# Altium integrated library Linear Technology Power Management Switching Regulator LTC1174-LTC3901.IntLib: 2647 symbols (part 102 of 364)
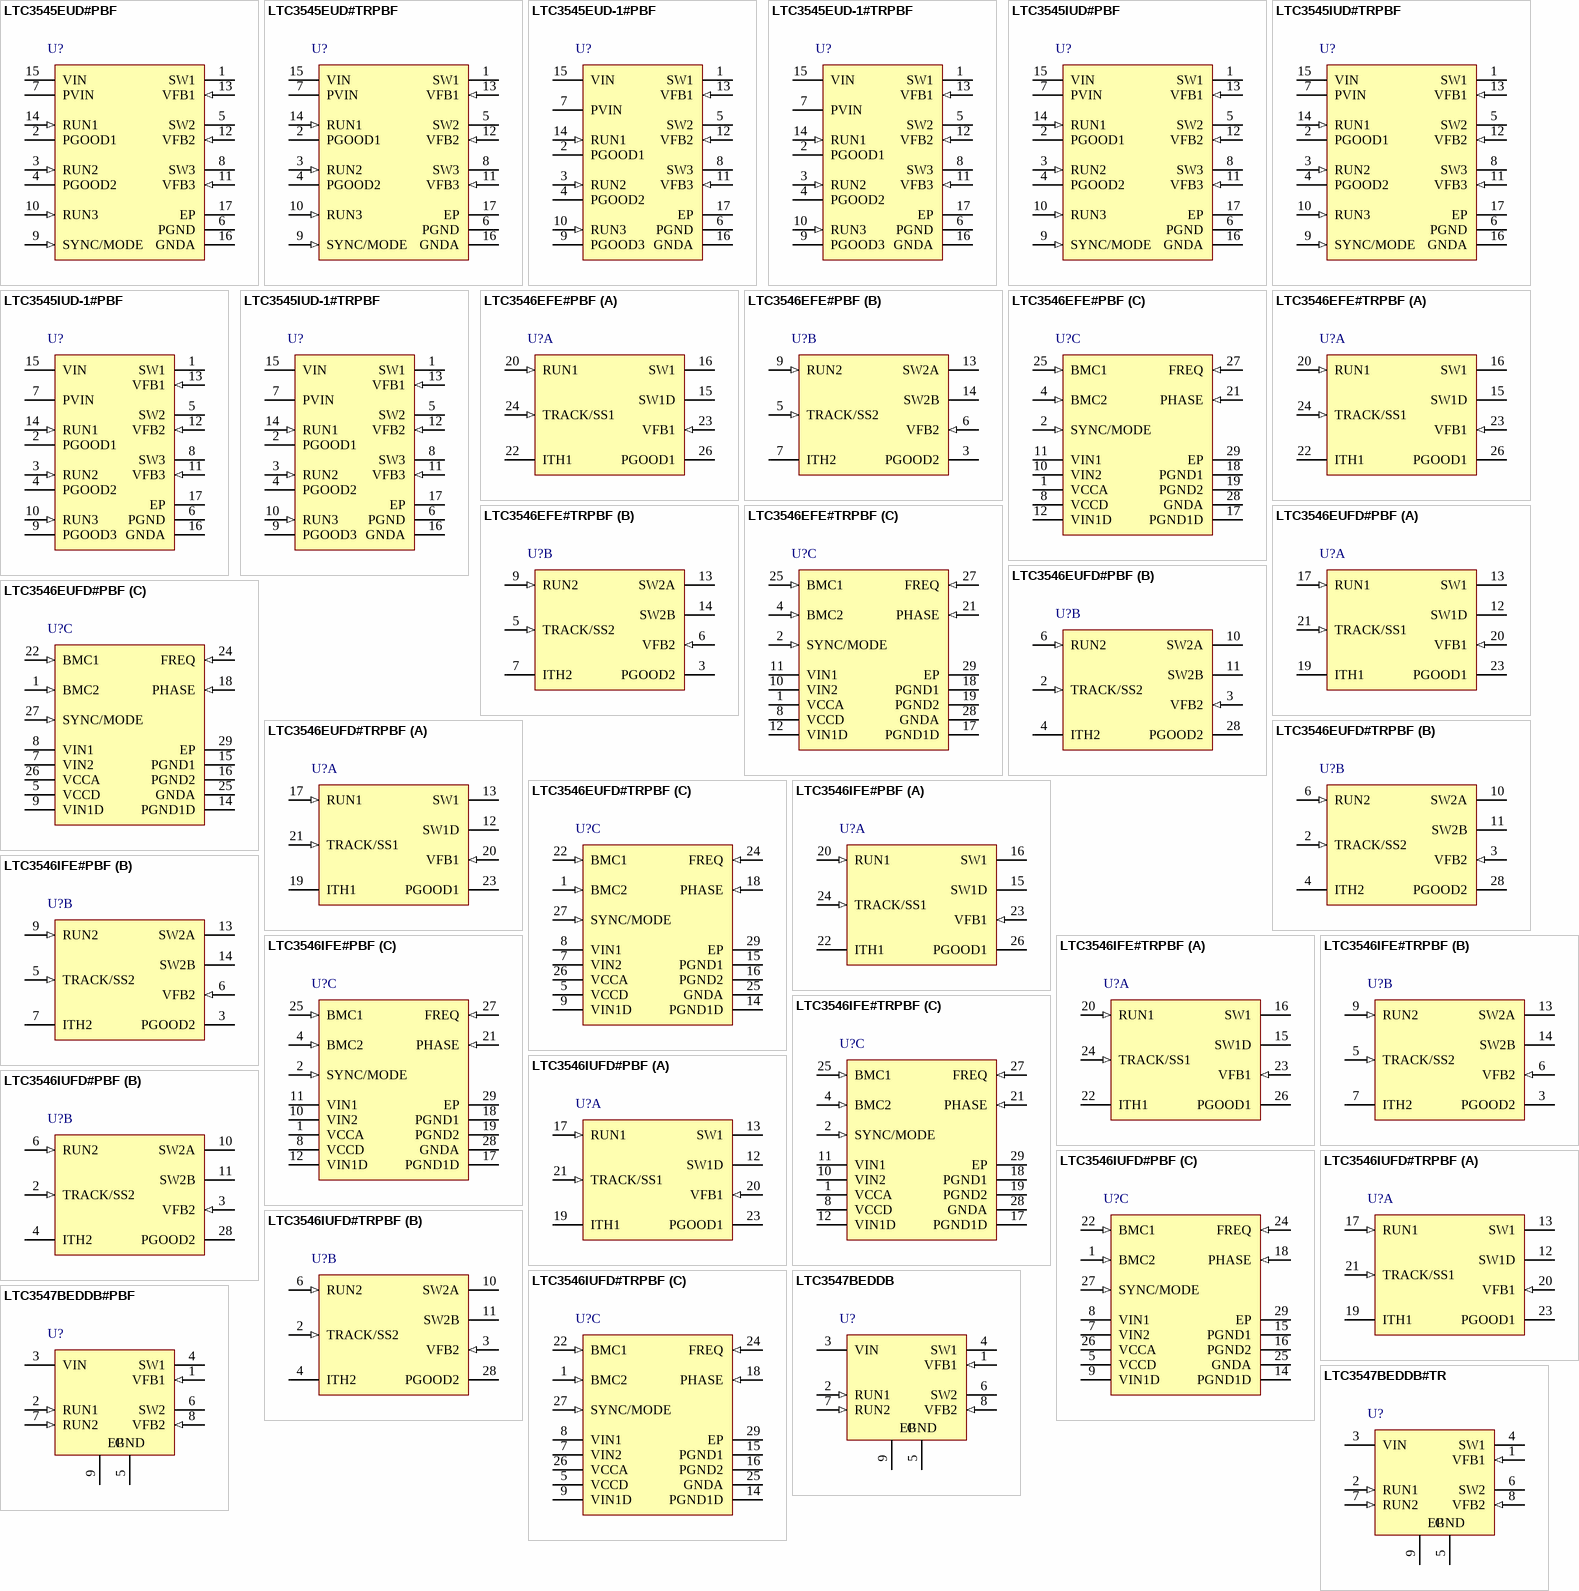
[diagram p167: symbols LTC3545EUD#PBF to LTC3547BEDDB#TR]

## LTC3546IUFD#TRPBF
designator U?
Dual Synchronous, 3 A / 1 A or 2 A / 2 A Configurable Step-Down DC/DC Regulator, 28-pin QFN (UFD-28), -40 to 125 degC, Pb-Free, Tape and Reel; Manufacturer: Linear Technology; PartNumber: LTC3546IUFD#TRPBF; Frequency Adjust Range: 750kHz - 4MHz; Number of Outputs: 2; DatasheetVersion: Rev. C; PackageVersion: Rev. B, 06/2010; PackageReference: UFD-28; PackageDescription: 28-Pin Plastic QFN, Body 5 x 4 mm, Pitch 0.5 mm; Supplier 1: Digi-Key; Supplier Part Number 1: LTC3546IUFD#TRPBF-ND; Supplier 2: Newark; Supplier Part Number 2: 56P3087; Packing: Tape and Reel; RoHS: TRUE; Mounting Technology: Surface Mount; Code_JEDEC: MO-220; ComponentLink1Description: Manufacturer URL; ComponentLink1URL: http://www.linear.com/; ComponentLink2Description: Datasheet; ComponentLink2URL: http://cds.linear.com/docs/en/datasheet/3546fc.pdf; ComponentLink3Description: Package Specification; ComponentLink3URL: http://cds.linear.com/docs/en/packaging/QFN_28_05-08-1712.pdf
footprint LT-UFD-28_N (QFN, 28-Leads, Body 5.1x4.1mm, Pitch 0.5mm, Thermal Pad 3.65x2.65mm, IPC Medium Density)
footprint LT-UFD-28_L (QFN, 28-Leads, Body 5.1x4.1mm, Pitch 0.5mm, Thermal Pad 3.65x2.65mm, IPC High Density)
footprint LT-UFD-28_M (QFN, 28-Leads, Body 5.1x4.1mm, Pitch 0.5mm, Thermal Pad 3.65x2.65mm, IPC Low Density)
part A pins: 12 SW1D (power) "The Dependent Switch Node Connection. The pin is externally connected to SW1 for a 2A/2A regulator or to SW2A/B for a 3A/1A regulator. Internal circuitry detects which pin SW1D is externally connected to, SW1 or SW2A/B. This (See Datasheet)", 13 SW1 (power) "The switch node connection to the Inductor for the Channel 1 regulator. This pin swings from VIN1 to PGND1.", 17 RUN1 (in) "Low Level Logic Input. Enable for Channel 1. When pulled high, regulator is running. When at 0V, regulator is off. When both RUN1 and RUN2 are at 0V the part is in shutdown.", 19 ITH1 "Error Amplifier Compensation for Channel 1. Peak current increases with an increase in the voltage on this pin. Nominal voltage range for this pin is 0V to 1.5V.", 20 VFB1 (in) "Feedback voltage from external resistive divider from Channel 1 output. Nominal voltage for this pin is 0.6V.", 21 TRACK/SS1 (in) "Tracking input for Channel 1 output or optional external soft-start input. VOUT1 will track an external voltage at this pin. Leaving this pin floating allows VOUT1 to start-up using the internal soft-start. An external (See Datasheet)", 23 PGOOD1 (oc) "Power Good Pin for the 1A Regulator. This common drain logic output is pulled to GND when the output voltage of Channel 1 is below -8% of regulation."
part B pins: 2 TRACK/SS2 (in) "Tracking input for Channel 2 output or optional external soft-start input. VOUT2 will track an external voltage at this pin. Leaving this pin floating allows VOUT2 to start-up using the internal soft-start. An external (See Datasheet)", 3 VFB2 (in) "Feedback voltage from external resistive divider from the Channel 2 regulator output. Nominal voltage for this pin is 0.6V.", 4 ITH2 "Error Amplifier Compensation for Channel 2 Regulator. Peak current increases with an increase in the voltage on this pin. Nominal voltage range for this pin is 0V to 1.5V.", 6 RUN2 (in) "Low Level Logic Input. Enable for Channel 2. When pulled high, regulator is running. When at 0V, regulator is off. When both RUN1 and RUN2 are at 0V the part is in shutdown.", 10 SW2A (power) "Half of the switch node connection to the inductor for Channel 2. SW2A and SW2B must be externally tied together. This pin swings from VIN2 to PGND2.", 11 SW2B (power) "Half of the switch node connection to the inductor for Channel 2 SW2A and SW2B must be externally tied together. This pin swings from VIN2 to PGND2.", 28 PGOOD2 (oc) "Power Good Pin for Channel 2 This common drain logic output is pulled to GND when the output voltage of Channel 2 is below -8% of regulation."
part C pins: 1 BMC2 (in) "Burst Mode Clamp for Channel 2. Connecting this pin to an external voltage between 0V and 0.6V sets the Burst Mode clamp level. If this pin is pulled to VCCA, an internal Burst Mode clamp level is used. This pin should be (See Datasheet)", 5 VCCD (power) "Supply Pin for Internal Digital Circuitry.", 7 VIN2 (power) "Supply pin for 2A P-channel switch which connects from VIN2 to SW2A/B.", 8 VIN1 (power) "Supply pin for 1A P-channel switch which connects from VIN1 to SW1.", 9 VIN1D (power) "Supply pin for 1A dependent P-channel switch which connects from VIN1D to SW1D.", 14 PGND1D (power) "Ground for SW1D Switching N-Channel Driver.", 15 PGND1 (power) "Ground for SW1 Switching NChannel Driver.", 16 PGND2 (power) "Ground for SW2A and SW2B Switching N-Channel Driver.", 18 PHASE (in) "Low Level Logic Input. Selects Channel 2 regulator switching phase with respect to Channel 1 regulator switching. When pulled high, the SW1 regulator and the SW2A/B regulator are in phase. When PHASE is at 0V the SW1 (See Datasheet)", 22 BMC1 (in) "Burst Mode Clamp for Channel 1. Connecting this pin to an external voltage between 0V and 0.6V sets the Burst Mode clamp level. If this pin is pulled to VCCA, an internal Burst Mode clamp level is used. This pin should be (See Datasheet)", 24 FREQ (in) "Frequency Set Pin. When FREQ is at VCCA, the internal oscillator runs at 2.25MHz. When a resistor is connected from this pin to GNDA, the internal oscillator frequency can be varied from 0.75MHz to 4MHz. When using external (See Datasheet)", 25 GNDA (power) "Ground Pin for Internal Analog Circuitry.", 26 VCCA (power) "Supply Pin for Internal Analog Circuitry.", 27 SYNC/MODE (in) "Combination Mode Selection and Oscillator Synchronization Pin. This pin controls the operation of the device. When the voltage on the SYNC/MODE pin is > (VIN - 0.5V), Burst Mode operation is selected for both regulators. (See Datasheet)", 29 EP (power) "Digital Ground. Connect to Electrical Ground for substrate and internal digital circuitry. Solder to PCB for rated thermal performance."

## LTC3547BEDDB
designator U?
Dual Monolithic 300 mA Synchronous Step-Down Regulator, 8-pin SON (DDB-8), -40 to 85 degC; Manufacturer: Linear Technology; PartNumber: LTC3547BEDDB; Number of Outputs: 2; DatasheetVersion: Rev. B; PackageVersion: Rev. B, 06/2010; PackageReference: DDB-8; PackageDescription: 8-Pin Plastic DFN, Body 3 x 2 mm, Pitch 0.5 mm; RoHS: FALSE; Mounting Technology: Surface Mount; Code_JEDEC: MO-229; ComponentLink1Description: Manufacturer URL; ComponentLink1URL: http://www.linear.com/; ComponentLink2Description: Datasheet; ComponentLink2URL: http://cds.linear.com/docs/en/datasheet/3547bfb.pdf; ComponentLink3Description: Package Specification; ComponentLink3URL: http://cds.linear.com/docs/en/packaging/DFN_8_05-08-1702.pdf
footprint LT-DDB-8_V (SON, 8-Leads, Body 3x2mm, Pitch 0.5mm, Thermal Pad 2.2x0.61mm)
pins: 1 VFB1 (in) "Regulator 1 Output Feedback. Receives the feedback voltage from the external resistor divider across the regulator 1 output. Nominal voltage for this pin is 0.6V.", 2 RUN1 (in) "Regulator 1 Enable. Forcing this pin to VIN enables regulator 1, while forcing it to GND causes regulator 1 to shut down.", 3 VIN (power) "Main Power Supply. Must be closely decoupled to GND.", 4 SW1 (power) "Regulator 1 Switch Node Connection to the Inductor. This pin swings from VIN to GND.", 5 GND (power) "Ground. Connect to the (-) terminal of COUT, and the (-) terminal of CIN.", 6 SW2 (power) "Regulator 2 Switch Node Connection to the Inductor. This pin swings from VIN to GND.", 7 RUN2 (in) "Regulator 2 Enable. Forcing this pin to VIN enables regulator 2, while forcing it to GND causes  regulator 2 to shut down.", 8 VFB2 (in) "Regulator 2 Output Feedback. Receives the feedback voltage from the external resistor divider across the regulator 2 output. Nominal voltage for this pin is 0.6V.", 9 EP (power) "Electrically Connected to GND. Must be soldered to the PCB for optimum thermal  performance."

## LTC3547BEDDB#PBF
designator U?
Dual Monolithic 300 mA Synchronous Step-Down Regulator, 8-pin SON (DDB-8), -40 to 85 degC, Pb-Free; Manufacturer: Linear Technology; PartNumber: LTC3547BEDDB#PBF; Number of Outputs: 2; DatasheetVersion: Rev. B; PackageVersion: Rev. B, 06/2010; PackageReference: DDB-8; PackageDescription: 8-Pin Plastic DFN, Body 3 x 2 mm, Pitch 0.5 mm; Supplier 1: Farnell; Supplier Part Number 1: 2295075; RoHS: TRUE; Mounting Technology: Surface Mount; Code_JEDEC: MO-229; ComponentLink1Description: Manufacturer URL; ComponentLink1URL: http://www.linear.com/; ComponentLink2Description: Datasheet; ComponentLink2URL: http://cds.linear.com/docs/en/datasheet/3547bfb.pdf; ComponentLink3Description: Package Specification; ComponentLink3URL: http://cds.linear.com/docs/en/packaging/DFN_8_05-08-1702.pdf
footprint LT-DDB-8_V (SON, 8-Leads, Body 3x2mm, Pitch 0.5mm, Thermal Pad 2.2x0.61mm)
pins: 1 VFB1 (in) "Regulator 1 Output Feedback. Receives the feedback voltage from the external resistor divider across the regulator 1 output. Nominal voltage for this pin is 0.6V.", 2 RUN1 (in) "Regulator 1 Enable. Forcing this pin to VIN enables regulator 1, while forcing it to GND causes regulator 1 to shut down.", 3 VIN (power) "Main Power Supply. Must be closely decoupled to GND.", 4 SW1 (power) "Regulator 1 Switch Node Connection to the Inductor. This pin swings from VIN to GND.", 5 GND (power) "Ground. Connect to the (-) terminal of COUT, and the (-) terminal of CIN.", 6 SW2 (power) "Regulator 2 Switch Node Connection to the Inductor. This pin swings from VIN to GND.", 7 RUN2 (in) "Regulator 2 Enable. Forcing this pin to VIN enables regulator 2, while forcing it to GND causes  regulator 2 to shut down.", 8 VFB2 (in) "Regulator 2 Output Feedback. Receives the feedback voltage from the external resistor divider across the regulator 2 output. Nominal voltage for this pin is 0.6V.", 9 EP (power) "Electrically Connected to GND. Must be soldered to the PCB for optimum thermal  performance."

## LTC3547BEDDB#TR
designator U?
Dual Monolithic 300 mA Synchronous Step-Down Regulator, 8-pin SON (DDB-8), -40 to 85 degC, Tape and Reel; Manufacturer: Linear Technology; PartNumber: LTC3547BEDDB#TR; Number of Outputs: 2; DatasheetVersion: Rev. B; PackageVersion: Rev. B, 06/2010; PackageReference: DDB-8; PackageDescription: 8-Pin Plastic DFN, Body 3 x 2 mm, Pitch 0.5 mm; Packing: Tape and Reel; RoHS: FALSE; Mounting Technology: Surface Mount; Code_JEDEC: MO-229; ComponentLink1Description: Manufacturer URL; ComponentLink1URL: http://www.linear.com/; ComponentLink2Description: Datasheet; ComponentLink2URL: http://cds.linear.com/docs/en/datasheet/3547bfb.pdf; ComponentLink3Description: Package Specification; ComponentLink3URL: http://cds.linear.com/docs/en/packaging/DFN_8_05-08-1702.pdf
footprint LT-DDB-8_V (SON, 8-Leads, Body 3x2mm, Pitch 0.5mm, Thermal Pad 2.2x0.61mm)
pins: 1 VFB1 (in) "Regulator 1 Output Feedback. Receives the feedback voltage from the external resistor divider across the regulator 1 output. Nominal voltage for this pin is 0.6V.", 2 RUN1 (in) "Regulator 1 Enable. Forcing this pin to VIN enables regulator 1, while forcing it to GND causes regulator 1 to shut down.", 3 VIN (power) "Main Power Supply. Must be closely decoupled to GND.", 4 SW1 (power) "Regulator 1 Switch Node Connection to the Inductor. This pin swings from VIN to GND.", 5 GND (power) "Ground. Connect to the (-) terminal of COUT, and the (-) terminal of CIN.", 6 SW2 (power) "Regulator 2 Switch Node Connection to the Inductor. This pin swings from VIN to GND.", 7 RUN2 (in) "Regulator 2 Enable. Forcing this pin to VIN enables regulator 2, while forcing it to GND causes  regulator 2 to shut down.", 8 VFB2 (in) "Regulator 2 Output Feedback. Receives the feedback voltage from the external resistor divider across the regulator 2 output. Nominal voltage for this pin is 0.6V.", 9 EP (power) "Electrically Connected to GND. Must be soldered to the PCB for optimum thermal  performance."

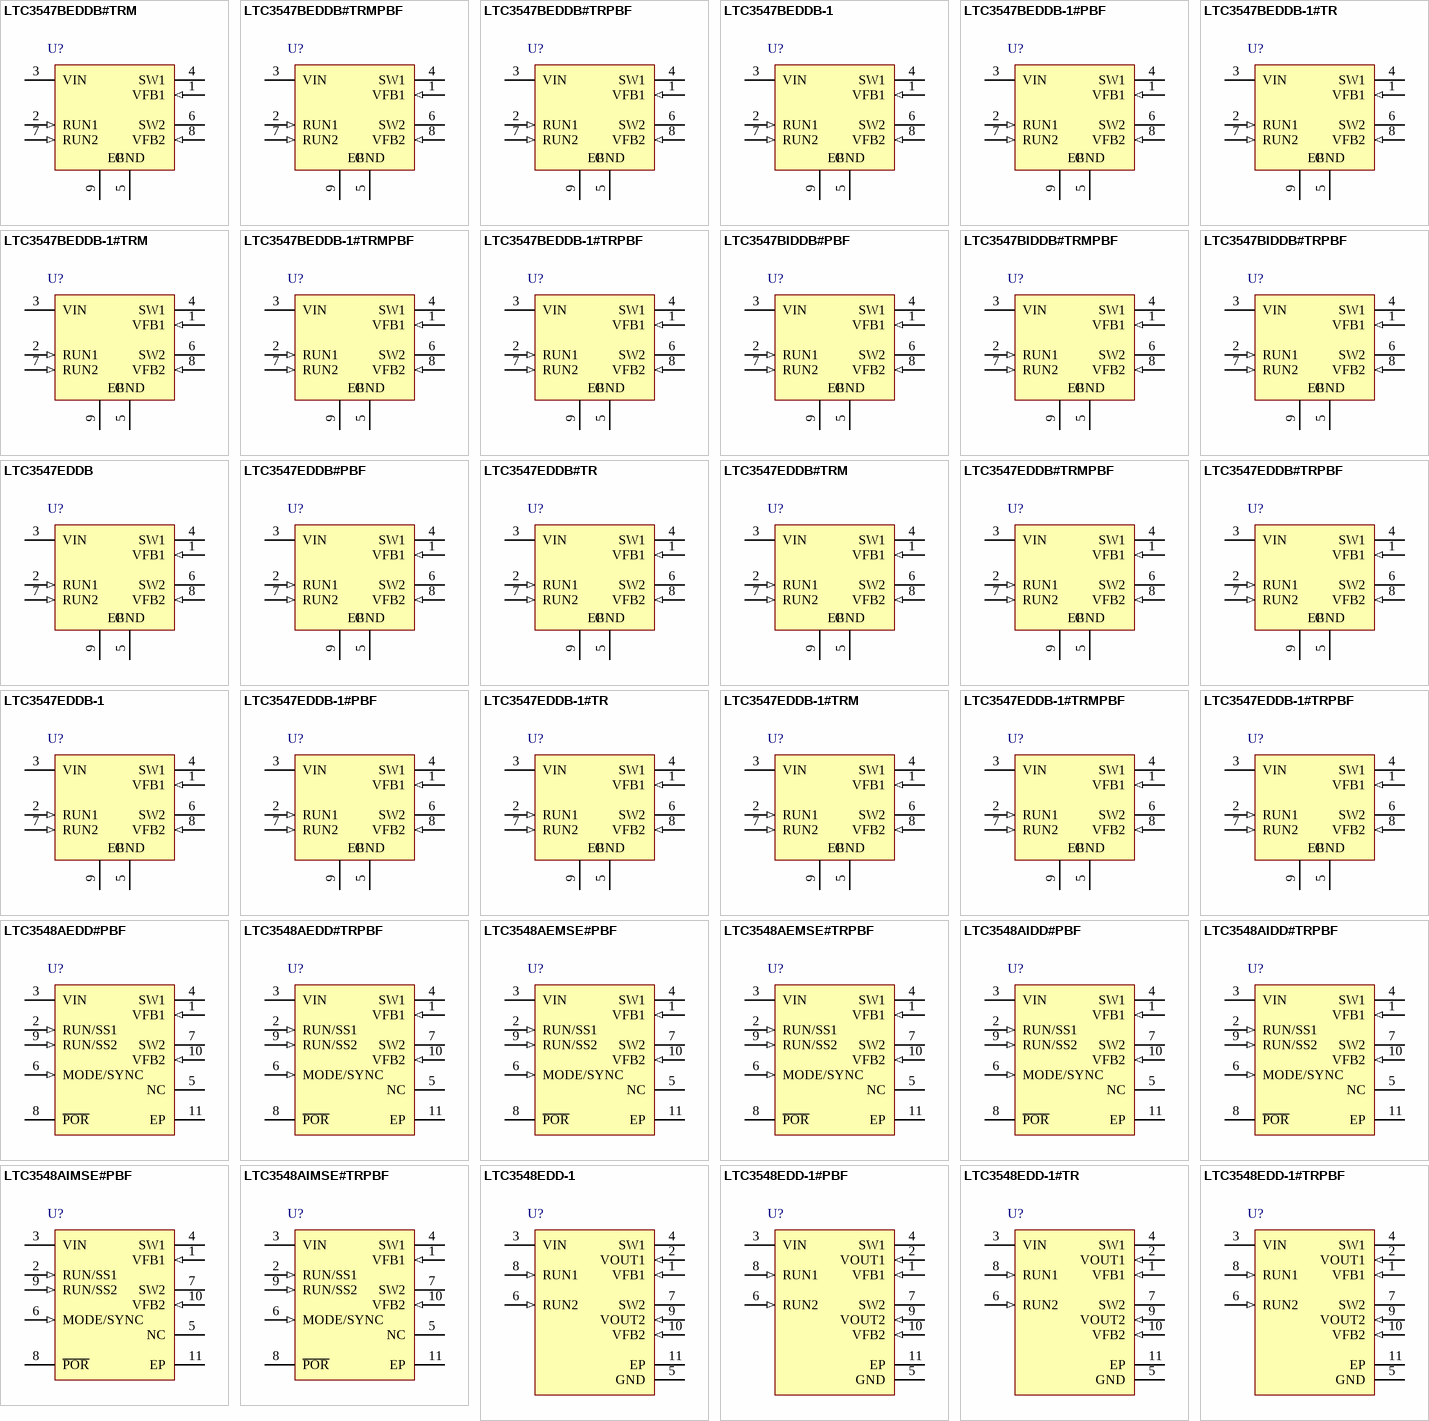
[diagram p33: symbols LTC3547BEDDB#TRM to LTC3548EDD-1#TRPBF]

## LTC3547BEDDB#TRM
designator U?
Dual Monolithic 300 mA Synchronous Step-Down Regulator, 8-pin SON (DDB-8), -40 to 85 degC, Mini Tape and Reel; Manufacturer: Linear Technology; PartNumber: LTC3547BEDDB#TRM; Number of Outputs: 2; DatasheetVersion: Rev. B; PackageVersion: Rev. B, 06/2010; PackageReference: DDB-8; PackageDescription: 8-Pin Plastic DFN, Body 3 x 2 mm, Pitch 0.5 mm; Packing: Mini Tape and Reel; RoHS: FALSE; Mounting Technology: Surface Mount; Code_JEDEC: MO-229; ComponentLink1Description: Manufacturer URL; ComponentLink1URL: http://www.linear.com/; ComponentLink2Description: Datasheet; ComponentLink2URL: http://cds.linear.com/docs/en/datasheet/3547bfb.pdf; ComponentLink3Description: Package Specification; ComponentLink3URL: http://cds.linear.com/docs/en/packaging/DFN_8_05-08-1702.pdf
footprint LT-DDB-8_V (SON, 8-Leads, Body 3x2mm, Pitch 0.5mm, Thermal Pad 2.2x0.61mm)
pins: 1 VFB1 (in) "Regulator 1 Output Feedback. Receives the feedback voltage from the external resistor divider across the regulator 1 output. Nominal voltage for this pin is 0.6V.", 2 RUN1 (in) "Regulator 1 Enable. Forcing this pin to VIN enables regulator 1, while forcing it to GND causes regulator 1 to shut down.", 3 VIN (power) "Main Power Supply. Must be closely decoupled to GND.", 4 SW1 (power) "Regulator 1 Switch Node Connection to the Inductor. This pin swings from VIN to GND.", 5 GND (power) "Ground. Connect to the (-) terminal of COUT, and the (-) terminal of CIN.", 6 SW2 (power) "Regulator 2 Switch Node Connection to the Inductor. This pin swings from VIN to GND.", 7 RUN2 (in) "Regulator 2 Enable. Forcing this pin to VIN enables regulator 2, while forcing it to GND causes  regulator 2 to shut down.", 8 VFB2 (in) "Regulator 2 Output Feedback. Receives the feedback voltage from the external resistor divider across the regulator 2 output. Nominal voltage for this pin is 0.6V.", 9 EP (power) "Electrically Connected to GND. Must be soldered to the PCB for optimum thermal  performance."

## LTC3547BEDDB#TRMPBF
designator U?
Dual Monolithic 300 mA Synchronous Step-Down Regulator, 8-pin SON (DDB-8), -40 to 85 degC, Pb-Free, Mini Tape and Reel; Manufacturer: Linear Technology; PartNumber: LTC3547BEDDB#TRMPBF; Number of Outputs: 2; DatasheetVersion: Rev. B; PackageVersion: Rev. B, 06/2010; PackageReference: DDB-8; PackageDescription: 8-Pin Plastic DFN, Body 3 x 2 mm, Pitch 0.5 mm; Supplier 1: Digi-Key; Supplier Part Number 1: LTC3547BEDDB#TRMPBF-ND; Supplier 2: Newark; Supplier Part Number 2: 58M0774; Packing: Mini Tape and Reel; RoHS: TRUE; Mounting Technology: Surface Mount; Code_JEDEC: MO-229; ComponentLink1Description: Manufacturer URL; ComponentLink1URL: http://www.linear.com/; ComponentLink2Description: Datasheet; ComponentLink2URL: http://cds.linear.com/docs/en/datasheet/3547bfb.pdf; ComponentLink3Description: Package Specification; ComponentLink3URL: http://cds.linear.com/docs/en/packaging/DFN_8_05-08-1702.pdf
footprint LT-DDB-8_V (SON, 8-Leads, Body 3x2mm, Pitch 0.5mm, Thermal Pad 2.2x0.61mm)
pins: 1 VFB1 (in) "Regulator 1 Output Feedback. Receives the feedback voltage from the external resistor divider across the regulator 1 output. Nominal voltage for this pin is 0.6V.", 2 RUN1 (in) "Regulator 1 Enable. Forcing this pin to VIN enables regulator 1, while forcing it to GND causes regulator 1 to shut down.", 3 VIN (power) "Main Power Supply. Must be closely decoupled to GND.", 4 SW1 (power) "Regulator 1 Switch Node Connection to the Inductor. This pin swings from VIN to GND.", 5 GND (power) "Ground. Connect to the (-) terminal of COUT, and the (-) terminal of CIN.", 6 SW2 (power) "Regulator 2 Switch Node Connection to the Inductor. This pin swings from VIN to GND.", 7 RUN2 (in) "Regulator 2 Enable. Forcing this pin to VIN enables regulator 2, while forcing it to GND causes  regulator 2 to shut down.", 8 VFB2 (in) "Regulator 2 Output Feedback. Receives the feedback voltage from the external resistor divider across the regulator 2 output. Nominal voltage for this pin is 0.6V.", 9 EP (power) "Electrically Connected to GND. Must be soldered to the PCB for optimum thermal  performance."

## LTC3547BEDDB#TRPBF
designator U?
Dual Monolithic 300 mA Synchronous Step-Down Regulator, 8-pin SON (DDB-8), -40 to 85 degC, Pb-Free, Tape and Reel; Manufacturer: Linear Technology; PartNumber: LTC3547BEDDB#TRPBF; Number of Outputs: 2; DatasheetVersion: Rev. B; PackageVersion: Rev. B, 06/2010; PackageReference: DDB-8; PackageDescription: 8-Pin Plastic DFN, Body 3 x 2 mm, Pitch 0.5 mm; Supplier 1: Digi-Key; Supplier Part Number 1: LTC3547BEDDB#TRPBF-ND; Packing: Tape and Reel; RoHS: TRUE; Mounting Technology: Surface Mount; Code_JEDEC: MO-229; ComponentLink1Description: Manufacturer URL; ComponentLink1URL: http://www.linear.com/; ComponentLink2Description: Datasheet; ComponentLink2URL: http://cds.linear.com/docs/en/datasheet/3547bfb.pdf; ComponentLink3Description: Package Specification; ComponentLink3URL: http://cds.linear.com/docs/en/packaging/DFN_8_05-08-1702.pdf
footprint LT-DDB-8_V (SON, 8-Leads, Body 3x2mm, Pitch 0.5mm, Thermal Pad 2.2x0.61mm)
pins: 1 VFB1 (in) "Regulator 1 Output Feedback. Receives the feedback voltage from the external resistor divider across the regulator 1 output. Nominal voltage for this pin is 0.6V.", 2 RUN1 (in) "Regulator 1 Enable. Forcing this pin to VIN enables regulator 1, while forcing it to GND causes regulator 1 to shut down.", 3 VIN (power) "Main Power Supply. Must be closely decoupled to GND.", 4 SW1 (power) "Regulator 1 Switch Node Connection to the Inductor. This pin swings from VIN to GND.", 5 GND (power) "Ground. Connect to the (-) terminal of COUT, and the (-) terminal of CIN.", 6 SW2 (power) "Regulator 2 Switch Node Connection to the Inductor. This pin swings from VIN to GND.", 7 RUN2 (in) "Regulator 2 Enable. Forcing this pin to VIN enables regulator 2, while forcing it to GND causes  regulator 2 to shut down.", 8 VFB2 (in) "Regulator 2 Output Feedback. Receives the feedback voltage from the external resistor divider across the regulator 2 output. Nominal voltage for this pin is 0.6V.", 9 EP (power) "Electrically Connected to GND. Must be soldered to the PCB for optimum thermal  performance."

## LTC3547BEDDB-1
designator U?
Dual Monolithic 300 mA Synchronous Step-Down Regulator, 8-pin SON (DDB-8), -40 to 85 degC; Manufacturer: Linear Technology; PartNumber: LTC3547BEDDB-1; Number of Outputs: 2; DatasheetVersion: Rev. B; PackageVersion: Rev. B, 06/2010; PackageReference: DDB-8; PackageDescription: 8-Pin Plastic DFN, Body 3 x 2 mm, Pitch 0.5 mm; RoHS: FALSE; Mounting Technology: Surface Mount; Code_JEDEC: MO-229; ComponentLink1Description: Manufacturer URL; ComponentLink1URL: http://www.linear.com/; ComponentLink2Description: Datasheet; ComponentLink2URL: http://cds.linear.com/docs/en/datasheet/3547bfb.pdf; ComponentLink3Description: Package Specification; ComponentLink3URL: http://cds.linear.com/docs/en/packaging/DFN_8_05-08-1702.pdf
footprint LT-DDB-8_V (SON, 8-Leads, Body 3x2mm, Pitch 0.5mm, Thermal Pad 2.2x0.61mm)
pins: 1 VFB1 (in) "Regulator 1 Output Feedback. Receives the feedback voltage from the external resistor divider across the regulator 1 output. Nominal voltage for this pin is 0.6V.", 2 RUN1 (in) "Regulator 1 Enable. Forcing this pin to VIN enables regulator 1, while forcing it to GND causes regulator 1 to shut down.", 3 VIN (power) "Main Power Supply. Must be closely decoupled to GND.", 4 SW1 (power) "Regulator 1 Switch Node Connection to the Inductor. This pin swings from VIN to GND.", 5 GND (power) "Ground. Connect to the (-) terminal of COUT, and the (-) terminal of CIN.", 6 SW2 (power) "Regulator 2 Switch Node Connection to the Inductor. This pin swings from VIN to GND.", 7 RUN2 (in) "Regulator 2 Enable. Forcing this pin to VIN enables regulator 2, while forcing it to GND causes  regulator 2 to shut down.", 8 VFB2 (in) "Regulator 2 Output Feedback. Receives the feedback voltage from the external resistor divider across the regulator 2 output. Nominal voltage for this pin is 0.6V.", 9 EP (power) "Electrically Connected to GND. Must be soldered to the PCB for optimum thermal  performance."

## LTC3547BEDDB-1#PBF
designator U?
Dual Monolithic 300 mA Synchronous Step-Down Regulator, 8-pin SON (DDB-8), -40 to 85 degC, Pb-Free; Manufacturer: Linear Technology; PartNumber: LTC3547BEDDB-1#PBF; Number of Outputs: 2; DatasheetVersion: Rev. B; PackageVersion: Rev. B, 06/2010; PackageReference: DDB-8; PackageDescription: 8-Pin Plastic DFN, Body 3 x 2 mm, Pitch 0.5 mm; RoHS: TRUE; Mounting Technology: Surface Mount; Code_JEDEC: MO-229; ComponentLink1Description: Manufacturer URL; ComponentLink1URL: http://www.linear.com/; ComponentLink2Description: Datasheet; ComponentLink2URL: http://cds.linear.com/docs/en/datasheet/3547bfb.pdf; ComponentLink3Description: Package Specification; ComponentLink3URL: http://cds.linear.com/docs/en/packaging/DFN_8_05-08-1702.pdf
footprint LT-DDB-8_V (SON, 8-Leads, Body 3x2mm, Pitch 0.5mm, Thermal Pad 2.2x0.61mm)
pins: 1 VFB1 (in) "Regulator 1 Output Feedback. Receives the feedback voltage from the external resistor divider across the regulator 1 output. Nominal voltage for this pin is 0.6V.", 2 RUN1 (in) "Regulator 1 Enable. Forcing this pin to VIN enables regulator 1, while forcing it to GND causes regulator 1 to shut down.", 3 VIN (power) "Main Power Supply. Must be closely decoupled to GND.", 4 SW1 (power) "Regulator 1 Switch Node Connection to the Inductor. This pin swings from VIN to GND.", 5 GND (power) "Ground. Connect to the (-) terminal of COUT, and the (-) terminal of CIN.", 6 SW2 (power) "Regulator 2 Switch Node Connection to the Inductor. This pin swings from VIN to GND.", 7 RUN2 (in) "Regulator 2 Enable. Forcing this pin to VIN enables regulator 2, while forcing it to GND causes  regulator 2 to shut down.", 8 VFB2 (in) "Regulator 2 Output Feedback. Receives the feedback voltage from the external resistor divider across the regulator 2 output. Nominal voltage for this pin is 0.6V.", 9 EP (power) "Electrically Connected to GND. Must be soldered to the PCB for optimum thermal  performance."

## LTC3547BEDDB-1#TR
designator U?
Dual Monolithic 300 mA Synchronous Step-Down Regulator, 8-pin SON (DDB-8), -40 to 85 degC, Tape and Reel; Manufacturer: Linear Technology; PartNumber: LTC3547BEDDB-1#TR; Number of Outputs: 2; DatasheetVersion: Rev. B; PackageVersion: Rev. B, 06/2010; PackageReference: DDB-8; PackageDescription: 8-Pin Plastic DFN, Body 3 x 2 mm, Pitch 0.5 mm; Packing: Tape and Reel; RoHS: FALSE; Mounting Technology: Surface Mount; Code_JEDEC: MO-229; ComponentLink1Description: Manufacturer URL; ComponentLink1URL: http://www.linear.com/; ComponentLink2Description: Datasheet; ComponentLink2URL: http://cds.linear.com/docs/en/datasheet/3547bfb.pdf; ComponentLink3Description: Package Specification; ComponentLink3URL: http://cds.linear.com/docs/en/packaging/DFN_8_05-08-1702.pdf
footprint LT-DDB-8_V (SON, 8-Leads, Body 3x2mm, Pitch 0.5mm, Thermal Pad 2.2x0.61mm)
pins: 1 VFB1 (in) "Regulator 1 Output Feedback. Receives the feedback voltage from the external resistor divider across the regulator 1 output. Nominal voltage for this pin is 0.6V.", 2 RUN1 (in) "Regulator 1 Enable. Forcing this pin to VIN enables regulator 1, while forcing it to GND causes regulator 1 to shut down.", 3 VIN (power) "Main Power Supply. Must be closely decoupled to GND.", 4 SW1 (power) "Regulator 1 Switch Node Connection to the Inductor. This pin swings from VIN to GND.", 5 GND (power) "Ground. Connect to the (-) terminal of COUT, and the (-) terminal of CIN.", 6 SW2 (power) "Regulator 2 Switch Node Connection to the Inductor. This pin swings from VIN to GND.", 7 RUN2 (in) "Regulator 2 Enable. Forcing this pin to VIN enables regulator 2, while forcing it to GND causes  regulator 2 to shut down.", 8 VFB2 (in) "Regulator 2 Output Feedback. Receives the feedback voltage from the external resistor divider across the regulator 2 output. Nominal voltage for this pin is 0.6V.", 9 EP (power) "Electrically Connected to GND. Must be soldered to the PCB for optimum thermal  performance."

## LTC3547BEDDB-1#TRM
designator U?
Dual Monolithic 300 mA Synchronous Step-Down Regulator, 8-pin SON (DDB-8), -40 to 85 degC, Mini Tape and Reel; Manufacturer: Linear Technology; PartNumber: LTC3547BEDDB-1#TRM; Number of Outputs: 2; DatasheetVersion: Rev. B; PackageVersion: Rev. B, 06/2010; PackageReference: DDB-8; PackageDescription: 8-Pin Plastic DFN, Body 3 x 2 mm, Pitch 0.5 mm; Packing: Mini Tape and Reel; RoHS: FALSE; Mounting Technology: Surface Mount; Code_JEDEC: MO-229; ComponentLink1Description: Manufacturer URL; ComponentLink1URL: http://www.linear.com/; ComponentLink2Description: Datasheet; ComponentLink2URL: http://cds.linear.com/docs/en/datasheet/3547bfb.pdf; ComponentLink3Description: Package Specification; ComponentLink3URL: http://cds.linear.com/docs/en/packaging/DFN_8_05-08-1702.pdf
footprint LT-DDB-8_V (SON, 8-Leads, Body 3x2mm, Pitch 0.5mm, Thermal Pad 2.2x0.61mm)
pins: 1 VFB1 (in) "Regulator 1 Output Feedback. Receives the feedback voltage from the external resistor divider across the regulator 1 output. Nominal voltage for this pin is 0.6V.", 2 RUN1 (in) "Regulator 1 Enable. Forcing this pin to VIN enables regulator 1, while forcing it to GND causes regulator 1 to shut down.", 3 VIN (power) "Main Power Supply. Must be closely decoupled to GND.", 4 SW1 (power) "Regulator 1 Switch Node Connection to the Inductor. This pin swings from VIN to GND.", 5 GND (power) "Ground. Connect to the (-) terminal of COUT, and the (-) terminal of CIN.", 6 SW2 (power) "Regulator 2 Switch Node Connection to the Inductor. This pin swings from VIN to GND.", 7 RUN2 (in) "Regulator 2 Enable. Forcing this pin to VIN enables regulator 2, while forcing it to GND causes  regulator 2 to shut down.", 8 VFB2 (in) "Regulator 2 Output Feedback. Receives the feedback voltage from the external resistor divider across the regulator 2 output. Nominal voltage for this pin is 0.6V.", 9 EP (power) "Electrically Connected to GND. Must be soldered to the PCB for optimum thermal  performance."

## LTC3547BEDDB-1#TRMPBF
designator U?
Dual Monolithic 300 mA Synchronous Step-Down Regulator, 8-pin SON (DDB-8), -40 to 85 degC, Pb-Free, Mini Tape and Reel; Manufacturer: Linear Technology; PartNumber: LTC3547BEDDB-1#TRMPBF; Number of Outputs: 2; DatasheetVersion: Rev. B; PackageVersion: Rev. B, 06/2010; PackageReference: DDB-8; PackageDescription: 8-Pin Plastic DFN, Body 3 x 2 mm, Pitch 0.5 mm; Supplier 1: Digi-Key; Supplier Part Number 1: LTC3547BEDDB-1#TRMPBF-ND; Packing: Mini Tape and Reel; RoHS: TRUE; Mounting Technology: Surface Mount; Code_JEDEC: MO-229; ComponentLink1Description: Manufacturer URL; ComponentLink1URL: http://www.linear.com/; ComponentLink2Description: Datasheet; ComponentLink2URL: http://cds.linear.com/docs/en/datasheet/3547bfb.pdf; ComponentLink3Description: Package Specification; ComponentLink3URL: http://cds.linear.com/docs/en/packaging/DFN_8_05-08-1702.pdf
footprint LT-DDB-8_V (SON, 8-Leads, Body 3x2mm, Pitch 0.5mm, Thermal Pad 2.2x0.61mm)
pins: 1 VFB1 (in) "Regulator 1 Output Feedback. Receives the feedback voltage from the external resistor divider across the regulator 1 output. Nominal voltage for this pin is 0.6V.", 2 RUN1 (in) "Regulator 1 Enable. Forcing this pin to VIN enables regulator 1, while forcing it to GND causes regulator 1 to shut down.", 3 VIN (power) "Main Power Supply. Must be closely decoupled to GND.", 4 SW1 (power) "Regulator 1 Switch Node Connection to the Inductor. This pin swings from VIN to GND.", 5 GND (power) "Ground. Connect to the (-) terminal of COUT, and the (-) terminal of CIN.", 6 SW2 (power) "Regulator 2 Switch Node Connection to the Inductor. This pin swings from VIN to GND.", 7 RUN2 (in) "Regulator 2 Enable. Forcing this pin to VIN enables regulator 2, while forcing it to GND causes  regulator 2 to shut down.", 8 VFB2 (in) "Regulator 2 Output Feedback. Receives the feedback voltage from the external resistor divider across the regulator 2 output. Nominal voltage for this pin is 0.6V.", 9 EP (power) "Electrically Connected to GND. Must be soldered to the PCB for optimum thermal  performance."

## LTC3547BEDDB-1#TRPBF
designator U?
Dual Monolithic 300 mA Synchronous Step-Down Regulator, 8-pin SON (DDB-8), -40 to 85 degC, Pb-Free, Tape and Reel; Manufacturer: Linear Technology; PartNumber: LTC3547BEDDB-1#TRPBF; Number of Outputs: 2; DatasheetVersion: Rev. B; PackageVersion: Rev. B, 06/2010; PackageReference: DDB-8; PackageDescription: 8-Pin Plastic DFN, Body 3 x 2 mm, Pitch 0.5 mm; Supplier 1: Digi-Key; Supplier Part Number 1: LTC3547BEDDB-1#TRPBF-ND; Supplier 2: Newark; Supplier Part Number 2: 58M0771; Packing: Tape and Reel; RoHS: TRUE; Mounting Technology: Surface Mount; Code_JEDEC: MO-229; ComponentLink1Description: Manufacturer URL; ComponentLink1URL: http://www.linear.com/; ComponentLink2Description: Datasheet; ComponentLink2URL: http://cds.linear.com/docs/en/datasheet/3547bfb.pdf; ComponentLink3Description: Package Specification; ComponentLink3URL: http://cds.linear.com/docs/en/packaging/DFN_8_05-08-1702.pdf
footprint LT-DDB-8_V (SON, 8-Leads, Body 3x2mm, Pitch 0.5mm, Thermal Pad 2.2x0.61mm)
pins: 1 VFB1 (in) "Regulator 1 Output Feedback. Receives the feedback voltage from the external resistor divider across the regulator 1 output. Nominal voltage for this pin is 0.6V.", 2 RUN1 (in) "Regulator 1 Enable. Forcing this pin to VIN enables regulator 1, while forcing it to GND causes regulator 1 to shut down.", 3 VIN (power) "Main Power Supply. Must be closely decoupled to GND.", 4 SW1 (power) "Regulator 1 Switch Node Connection to the Inductor. This pin swings from VIN to GND.", 5 GND (power) "Ground. Connect to the (-) terminal of COUT, and the (-) terminal of CIN.", 6 SW2 (power) "Regulator 2 Switch Node Connection to the Inductor. This pin swings from VIN to GND.", 7 RUN2 (in) "Regulator 2 Enable. Forcing this pin to VIN enables regulator 2, while forcing it to GND causes  regulator 2 to shut down.", 8 VFB2 (in) "Regulator 2 Output Feedback. Receives the feedback voltage from the external resistor divider across the regulator 2 output. Nominal voltage for this pin is 0.6V.", 9 EP (power) "Electrically Connected to GND. Must be soldered to the PCB for optimum thermal  performance."

## LTC3547BIDDB#PBF
designator U?
Dual Monolithic 300 mA Synchronous Step-Down Regulator, 8-pin SON (DDB-8), -40 to 125 degC, Pb-Free; Manufacturer: Linear Technology; PartNumber: LTC3547BIDDB#PBF; Number of Outputs: 2; DatasheetVersion: Rev. B; PackageVersion: Rev. B, 06/2010; PackageReference: DDB-8; PackageDescription: 8-Pin Plastic DFN, Body 3 x 2 mm, Pitch 0.5 mm; RoHS: TRUE; Mounting Technology: Surface Mount; Code_JEDEC: MO-229; ComponentLink1Description: Manufacturer URL; ComponentLink1URL: http://www.linear.com/; ComponentLink2Description: Datasheet; ComponentLink2URL: http://cds.linear.com/docs/en/datasheet/3547bfb.pdf; ComponentLink3Description: Package Specification; ComponentLink3URL: http://cds.linear.com/docs/en/packaging/DFN_8_05-08-1702.pdf
footprint LT-DDB-8_V (SON, 8-Leads, Body 3x2mm, Pitch 0.5mm, Thermal Pad 2.2x0.61mm)
pins: 1 VFB1 (in) "Regulator 1 Output Feedback. Receives the feedback voltage from the external resistor divider across the regulator 1 output. Nominal voltage for this pin is 0.6V.", 2 RUN1 (in) "Regulator 1 Enable. Forcing this pin to VIN enables regulator 1, while forcing it to GND causes regulator 1 to shut down.", 3 VIN (power) "Main Power Supply. Must be closely decoupled to GND.", 4 SW1 (power) "Regulator 1 Switch Node Connection to the Inductor. This pin swings from VIN to GND.", 5 GND (power) "Ground. Connect to the (-) terminal of COUT, and the (-) terminal of CIN.", 6 SW2 (power) "Regulator 2 Switch Node Connection to the Inductor. This pin swings from VIN to GND.", 7 RUN2 (in) "Regulator 2 Enable. Forcing this pin to VIN enables regulator 2, while forcing it to GND causes  regulator 2 to shut down.", 8 VFB2 (in) "Regulator 2 Output Feedback. Receives the feedback voltage from the external resistor divider across the regulator 2 output. Nominal voltage for this pin is 0.6V.", 9 EP (power) "Electrically Connected to GND. Must be soldered to the PCB for optimum thermal  performance."

## LTC3547BIDDB#TRMPBF
designator U?
Dual Monolithic 300 mA Synchronous Step-Down Regulator, 8-pin SON (DDB-8), -40 to 125 degC, Pb-Free, Mini Tape and Reel; Manufacturer: Linear Technology; PartNumber: LTC3547BIDDB#TRMPBF; Number of Outputs: 2; DatasheetVersion: Rev. B; PackageVersion: Rev. B, 06/2010; PackageReference: DDB-8; PackageDescription: 8-Pin Plastic DFN, Body 3 x 2 mm, Pitch 0.5 mm; Supplier 1: Digi-Key; Supplier Part Number 1: LTC3547BIDDB#TRMPBF-ND; Packing: Mini Tape and Reel; RoHS: TRUE; Mounting Technology: Surface Mount; Code_JEDEC: MO-229; ComponentLink1Description: Manufacturer URL; ComponentLink1URL: http://www.linear.com/; ComponentLink2Description: Datasheet; ComponentLink2URL: http://cds.linear.com/docs/en/datasheet/3547bfb.pdf; ComponentLink3Description: Package Specification; ComponentLink3URL: http://cds.linear.com/docs/en/packaging/DFN_8_05-08-1702.pdf
footprint LT-DDB-8_V (SON, 8-Leads, Body 3x2mm, Pitch 0.5mm, Thermal Pad 2.2x0.61mm)
pins: 1 VFB1 (in) "Regulator 1 Output Feedback. Receives the feedback voltage from the external resistor divider across the regulator 1 output. Nominal voltage for this pin is 0.6V.", 2 RUN1 (in) "Regulator 1 Enable. Forcing this pin to VIN enables regulator 1, while forcing it to GND causes regulator 1 to shut down.", 3 VIN (power) "Main Power Supply. Must be closely decoupled to GND.", 4 SW1 (power) "Regulator 1 Switch Node Connection to the Inductor. This pin swings from VIN to GND.", 5 GND (power) "Ground. Connect to the (-) terminal of COUT, and the (-) terminal of CIN.", 6 SW2 (power) "Regulator 2 Switch Node Connection to the Inductor. This pin swings from VIN to GND.", 7 RUN2 (in) "Regulator 2 Enable. Forcing this pin to VIN enables regulator 2, while forcing it to GND causes  regulator 2 to shut down.", 8 VFB2 (in) "Regulator 2 Output Feedback. Receives the feedback voltage from the external resistor divider across the regulator 2 output. Nominal voltage for this pin is 0.6V.", 9 EP (power) "Electrically Connected to GND. Must be soldered to the PCB for optimum thermal  performance."

## LTC3547BIDDB#TRPBF
designator U?
Dual Monolithic 300 mA Synchronous Step-Down Regulator, 8-pin SON (DDB-8), -40 to 125 degC, Pb-Free, Tape and Reel; Manufacturer: Linear Technology; PartNumber: LTC3547BIDDB#TRPBF; Number of Outputs: 2; DatasheetVersion: Rev. B; PackageVersion: Rev. B, 06/2010; PackageReference: DDB-8; PackageDescription: 8-Pin Plastic DFN, Body 3 x 2 mm, Pitch 0.5 mm; Supplier 1: Digi-Key; Supplier Part Number 1: LTC3547BIDDB#TRPBF-ND; Packing: Tape and Reel; RoHS: TRUE; Mounting Technology: Surface Mount; Code_JEDEC: MO-229; ComponentLink1Description: Manufacturer URL; ComponentLink1URL: http://www.linear.com/; ComponentLink2Description: Datasheet; ComponentLink2URL: http://cds.linear.com/docs/en/datasheet/3547bfb.pdf; ComponentLink3Description: Package Specification; ComponentLink3URL: http://cds.linear.com/docs/en/packaging/DFN_8_05-08-1702.pdf
footprint LT-DDB-8_V (SON, 8-Leads, Body 3x2mm, Pitch 0.5mm, Thermal Pad 2.2x0.61mm)
pins: 1 VFB1 (in) "Regulator 1 Output Feedback. Receives the feedback voltage from the external resistor divider across the regulator 1 output. Nominal voltage for this pin is 0.6V.", 2 RUN1 (in) "Regulator 1 Enable. Forcing this pin to VIN enables regulator 1, while forcing it to GND causes regulator 1 to shut down.", 3 VIN (power) "Main Power Supply. Must be closely decoupled to GND.", 4 SW1 (power) "Regulator 1 Switch Node Connection to the Inductor. This pin swings from VIN to GND.", 5 GND (power) "Ground. Connect to the (-) terminal of COUT, and the (-) terminal of CIN.", 6 SW2 (power) "Regulator 2 Switch Node Connection to the Inductor. This pin swings from VIN to GND.", 7 RUN2 (in) "Regulator 2 Enable. Forcing this pin to VIN enables regulator 2, while forcing it to GND causes  regulator 2 to shut down.", 8 VFB2 (in) "Regulator 2 Output Feedback. Receives the feedback voltage from the external resistor divider across the regulator 2 output. Nominal voltage for this pin is 0.6V.", 9 EP (power) "Electrically Connected to GND. Must be soldered to the PCB for optimum thermal  performance."

## LTC3547EDDB
designator U?
Dual Monolithic 300 mA Synchronous Step-Down Regulator, 8-pin SON (DDB-8), -40 to 85 degC; Manufacturer: Linear Technology; PartNumber: LTC3547EDDB; Number of Outputs: 2; DatasheetVersion: Rev. A; PackageVersion: Rev. B, 06/2010; PackageReference: DDB-8; PackageDescription: 8-Pin Plastic DFN, Body 3 x 2 mm, Pitch 0.5 mm; RoHS: FALSE; Mounting Technology: Surface Mount; Code_JEDEC: MO-229; ComponentLink1Description: Manufacturer URL; ComponentLink1URL: http://www.linear.com/; ComponentLink2Description: Datasheet; ComponentLink2URL: http://cds.linear.com/docs/en/datasheet/3547fa.pdf; ComponentLink3Description: Package Specification; ComponentLink3URL: http://cds.linear.com/docs/en/packaging/DFN_8_05-08-1702.pdf
footprint LT-DDB-8_V (SON, 8-Leads, Body 3x2mm, Pitch 0.5mm, Thermal Pad 2.2x0.61mm)
pins: 1 VFB1 (in) "Regulator 1 Output Feedback. Receives the feedback voltage from the external resistor divider across the regulator 1 output. Nominal voltage for this pin is 0.6V.", 2 RUN1 (in) "Regulator 1 Enable. Forcing this pin to VIN enables regulator 1, while forcing it to GND causes regulator 1 to shut down.", 3 VIN (power) "Main Power Supply. Must be closely decoupled to GND.", 4 SW1 (power) "Regulator 1 Switch Node Connection to the Inductor. This pin swings from VIN to GND.", 5 GND (power) "Ground. Connect to the (-) terminal of COUT, and the (-) terminal of CIN.", 6 SW2 (power) "Regulator 2 Switch Node Connection to the Inductor. This pin swings from VIN to GND.", 7 RUN2 (in) "Regulator 2 Enable. Forcing this pin to VIN enables regulator 2, while forcing it to GND causes  regulator 2 to shut down.", 8 VFB2 (in) "Regulator 2 Output Feedback. Receives the feedback voltage from the external resistor divider across the regulator 2 output. Nominal voltage for this pin is 0.6V.", 9 EP (power) "Electrically Connected to GND. Must be soldered to the PCB for optimum thermal  performance."

## LTC3547EDDB#PBF
designator U?
Dual Monolithic 300 mA Synchronous Step-Down Regulator, 8-pin SON (DDB-8), -40 to 85 degC, Pb-Free; Manufacturer: Linear Technology; PartNumber: LTC3547EDDB#PBF; Number of Outputs: 2; DatasheetVersion: Rev. A; PackageVersion: Rev. B, 06/2010; PackageReference: DDB-8; PackageDescription: 8-Pin Plastic DFN, Body 3 x 2 mm, Pitch 0.5 mm; Supplier 1: Farnell; Supplier Part Number 1: 1329372; Supplier 2: Newark; Supplier Part Number 2: 06R6455; RoHS: TRUE; Mounting Technology: Surface Mount; Code_JEDEC: MO-229; ComponentLink1Description: Manufacturer URL; ComponentLink1URL: http://www.linear.com/; ComponentLink2Description: Datasheet; ComponentLink2URL: http://cds.linear.com/docs/en/datasheet/3547fa.pdf; ComponentLink3Description: Package Specification; ComponentLink3URL: http://cds.linear.com/docs/en/packaging/DFN_8_05-08-1702.pdf
footprint LT-DDB-8_V (SON, 8-Leads, Body 3x2mm, Pitch 0.5mm, Thermal Pad 2.2x0.61mm)
pins: 1 VFB1 (in) "Regulator 1 Output Feedback. Receives the feedback voltage from the external resistor divider across the regulator 1 output. Nominal voltage for this pin is 0.6V.", 2 RUN1 (in) "Regulator 1 Enable. Forcing this pin to VIN enables regulator 1, while forcing it to GND causes regulator 1 to shut down.", 3 VIN (power) "Main Power Supply. Must be closely decoupled to GND.", 4 SW1 (power) "Regulator 1 Switch Node Connection to the Inductor. This pin swings from VIN to GND.", 5 GND (power) "Ground. Connect to the (-) terminal of COUT, and the (-) terminal of CIN.", 6 SW2 (power) "Regulator 2 Switch Node Connection to the Inductor. This pin swings from VIN to GND.", 7 RUN2 (in) "Regulator 2 Enable. Forcing this pin to VIN enables regulator 2, while forcing it to GND causes  regulator 2 to shut down.", 8 VFB2 (in) "Regulator 2 Output Feedback. Receives the feedback voltage from the external resistor divider across the regulator 2 output. Nominal voltage for this pin is 0.6V.", 9 EP (power) "Electrically Connected to GND. Must be soldered to the PCB for optimum thermal  performance."

## LTC3547EDDB#TR
designator U?
Dual Monolithic 300 mA Synchronous Step-Down Regulator, 8-pin SON (DDB-8), -40 to 85 degC, Tape and Reel; Manufacturer: Linear Technology; PartNumber: LTC3547EDDB#TR; Number of Outputs: 2; DatasheetVersion: Rev. A; PackageVersion: Rev. B, 06/2010; PackageReference: DDB-8; PackageDescription: 8-Pin Plastic DFN, Body 3 x 2 mm, Pitch 0.5 mm; Packing: Tape and Reel; RoHS: FALSE; Mounting Technology: Surface Mount; Code_JEDEC: MO-229; ComponentLink1Description: Manufacturer URL; ComponentLink1URL: http://www.linear.com/; ComponentLink2Description: Datasheet; ComponentLink2URL: http://cds.linear.com/docs/en/datasheet/3547fa.pdf; ComponentLink3Description: Package Specification; ComponentLink3URL: http://cds.linear.com/docs/en/packaging/DFN_8_05-08-1702.pdf
footprint LT-DDB-8_V (SON, 8-Leads, Body 3x2mm, Pitch 0.5mm, Thermal Pad 2.2x0.61mm)
pins: 1 VFB1 (in) "Regulator 1 Output Feedback. Receives the feedback voltage from the external resistor divider across the regulator 1 output. Nominal voltage for this pin is 0.6V.", 2 RUN1 (in) "Regulator 1 Enable. Forcing this pin to VIN enables regulator 1, while forcing it to GND causes regulator 1 to shut down.", 3 VIN (power) "Main Power Supply. Must be closely decoupled to GND.", 4 SW1 (power) "Regulator 1 Switch Node Connection to the Inductor. This pin swings from VIN to GND.", 5 GND (power) "Ground. Connect to the (-) terminal of COUT, and the (-) terminal of CIN.", 6 SW2 (power) "Regulator 2 Switch Node Connection to the Inductor. This pin swings from VIN to GND.", 7 RUN2 (in) "Regulator 2 Enable. Forcing this pin to VIN enables regulator 2, while forcing it to GND causes  regulator 2 to shut down.", 8 VFB2 (in) "Regulator 2 Output Feedback. Receives the feedback voltage from the external resistor divider across the regulator 2 output. Nominal voltage for this pin is 0.6V.", 9 EP (power) "Electrically Connected to GND. Must be soldered to the PCB for optimum thermal  performance."

## LTC3547EDDB#TRM
designator U?
Dual Monolithic 300 mA Synchronous Step-Down Regulator, 8-pin SON (DDB-8), -40 to 85 degC, Mini Tape and Reel; Manufacturer: Linear Technology; PartNumber: LTC3547EDDB#TRM; Number of Outputs: 2; DatasheetVersion: Rev. A; PackageVersion: Rev. B, 06/2010; PackageReference: DDB-8; PackageDescription: 8-Pin Plastic DFN, Body 3 x 2 mm, Pitch 0.5 mm; Packing: Mini Tape and Reel; RoHS: FALSE; Mounting Technology: Surface Mount; Code_JEDEC: MO-229; ComponentLink1Description: Manufacturer URL; ComponentLink1URL: http://www.linear.com/; ComponentLink2Description: Datasheet; ComponentLink2URL: http://cds.linear.com/docs/en/datasheet/3547fa.pdf; ComponentLink3Description: Package Specification; ComponentLink3URL: http://cds.linear.com/docs/en/packaging/DFN_8_05-08-1702.pdf
footprint LT-DDB-8_V (SON, 8-Leads, Body 3x2mm, Pitch 0.5mm, Thermal Pad 2.2x0.61mm)
pins: 1 VFB1 (in) "Regulator 1 Output Feedback. Receives the feedback voltage from the external resistor divider across the regulator 1 output. Nominal voltage for this pin is 0.6V.", 2 RUN1 (in) "Regulator 1 Enable. Forcing this pin to VIN enables regulator 1, while forcing it to GND causes regulator 1 to shut down.", 3 VIN (power) "Main Power Supply. Must be closely decoupled to GND.", 4 SW1 (power) "Regulator 1 Switch Node Connection to the Inductor. This pin swings from VIN to GND.", 5 GND (power) "Ground. Connect to the (-) terminal of COUT, and the (-) terminal of CIN.", 6 SW2 (power) "Regulator 2 Switch Node Connection to the Inductor. This pin swings from VIN to GND.", 7 RUN2 (in) "Regulator 2 Enable. Forcing this pin to VIN enables regulator 2, while forcing it to GND causes  regulator 2 to shut down.", 8 VFB2 (in) "Regulator 2 Output Feedback. Receives the feedback voltage from the external resistor divider across the regulator 2 output. Nominal voltage for this pin is 0.6V.", 9 EP (power) "Electrically Connected to GND. Must be soldered to the PCB for optimum thermal  performance."

## LTC3547EDDB#TRMPBF
designator U?
Dual Monolithic 300 mA Synchronous Step-Down Regulator, 8-pin SON (DDB-8), -40 to 85 degC, Pb-Free, Mini Tape and Reel; Manufacturer: Linear Technology; PartNumber: LTC3547EDDB#TRMPBF; Number of Outputs: 2; DatasheetVersion: Rev. A; PackageVersion: Rev. B, 06/2010; PackageReference: DDB-8; PackageDescription: 8-Pin Plastic DFN, Body 3 x 2 mm, Pitch 0.5 mm; Supplier 1: Digi-Key; Supplier Part Number 1: LTC3547EDDB#TRMPBFTR-ND; Supplier 2: Digi-Key; Supplier Part Number 2: LTC3547EDDB#TRMPBFCT-ND; Supplier 3: Digi-Key; Supplier Part Number 3: LTC3547EDDB#TRMPBFDKR-ND; Supplier 4: Farnell; Supplier Part Number 4: 1715238; Packing: Mini Tape and Reel; RoHS: TRUE; Mounting Technology: Surface Mount; Code_JEDEC: MO-229; ComponentLink1Description: Manufacturer URL; ComponentLink1URL: http://www.linear.com/; ComponentLink2Description: Datasheet; ComponentLink2URL: http://cds.linear.com/docs/en/datasheet/3547fa.pdf; ComponentLink3Description: Package Specification; ComponentLink3URL: http://cds.linear.com/docs/en/packaging/DFN_8_05-08-1702.pdf
footprint LT-DDB-8_V (SON, 8-Leads, Body 3x2mm, Pitch 0.5mm, Thermal Pad 2.2x0.61mm)
pins: 1 VFB1 (in) "Regulator 1 Output Feedback. Receives the feedback voltage from the external resistor divider across the regulator 1 output. Nominal voltage for this pin is 0.6V.", 2 RUN1 (in) "Regulator 1 Enable. Forcing this pin to VIN enables regulator 1, while forcing it to GND causes regulator 1 to shut down.", 3 VIN (power) "Main Power Supply. Must be closely decoupled to GND.", 4 SW1 (power) "Regulator 1 Switch Node Connection to the Inductor. This pin swings from VIN to GND.", 5 GND (power) "Ground. Connect to the (-) terminal of COUT, and the (-) terminal of CIN.", 6 SW2 (power) "Regulator 2 Switch Node Connection to the Inductor. This pin swings from VIN to GND.", 7 RUN2 (in) "Regulator 2 Enable. Forcing this pin to VIN enables regulator 2, while forcing it to GND causes  regulator 2 to shut down.", 8 VFB2 (in) "Regulator 2 Output Feedback. Receives the feedback voltage from the external resistor divider across the regulator 2 output. Nominal voltage for this pin is 0.6V.", 9 EP (power) "Electrically Connected to GND. Must be soldered to the PCB for optimum thermal  performance."

## LTC3547EDDB#TRPBF
designator U?
Dual Monolithic 300 mA Synchronous Step-Down Regulator, 8-pin SON (DDB-8), -40 to 85 degC, Pb-Free, Tape and Reel; Manufacturer: Linear Technology; PartNumber: LTC3547EDDB#TRPBF; Number of Outputs: 2; DatasheetVersion: Rev. A; PackageVersion: Rev. B, 06/2010; PackageReference: DDB-8; PackageDescription: 8-Pin Plastic DFN, Body 3 x 2 mm, Pitch 0.5 mm; Supplier 1: Digi-Key; Supplier Part Number 1: LTC3547EDDB#TRPBF-ND; Supplier 2: Newark; Supplier Part Number 2: 58M0783; Packing: Tape and Reel; RoHS: TRUE; Mounting Technology: Surface Mount; Code_JEDEC: MO-229; ComponentLink1Description: Manufacturer URL; ComponentLink1URL: http://www.linear.com/; ComponentLink2Description: Datasheet; ComponentLink2URL: http://cds.linear.com/docs/en/datasheet/3547fa.pdf; ComponentLink3Description: Package Specification; ComponentLink3URL: http://cds.linear.com/docs/en/packaging/DFN_8_05-08-1702.pdf
footprint LT-DDB-8_V (SON, 8-Leads, Body 3x2mm, Pitch 0.5mm, Thermal Pad 2.2x0.61mm)
pins: 1 VFB1 (in) "Regulator 1 Output Feedback. Receives the feedback voltage from the external resistor divider across the regulator 1 output. Nominal voltage for this pin is 0.6V.", 2 RUN1 (in) "Regulator 1 Enable. Forcing this pin to VIN enables regulator 1, while forcing it to GND causes regulator 1 to shut down.", 3 VIN (power) "Main Power Supply. Must be closely decoupled to GND.", 4 SW1 (power) "Regulator 1 Switch Node Connection to the Inductor. This pin swings from VIN to GND.", 5 GND (power) "Ground. Connect to the (-) terminal of COUT, and the (-) terminal of CIN.", 6 SW2 (power) "Regulator 2 Switch Node Connection to the Inductor. This pin swings from VIN to GND.", 7 RUN2 (in) "Regulator 2 Enable. Forcing this pin to VIN enables regulator 2, while forcing it to GND causes  regulator 2 to shut down.", 8 VFB2 (in) "Regulator 2 Output Feedback. Receives the feedback voltage from the external resistor divider across the regulator 2 output. Nominal voltage for this pin is 0.6V.", 9 EP (power) "Electrically Connected to GND. Must be soldered to the PCB for optimum thermal  performance."